# EAGLE library part ACS7* (library C3-Allegro)
Alegro Current Sense IC
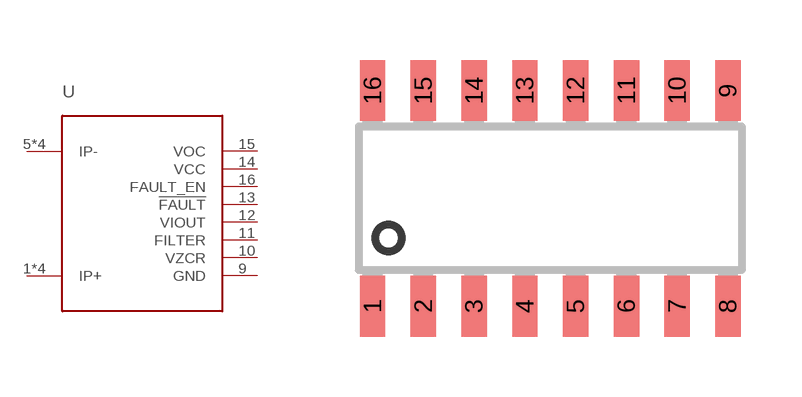
[diagram p0: symbol with the pads of SOIC16; footprint SOIC16]

Designator prefix U

## ACS710 (VCC: 5V), ACS716 (VCC: 3.3V)  [SOIC16]
1  IP+
2  IP+
3  IP+
4  IP+
5  IP-
6  IP-
7  IP-
8  IP-
9  GND  pwr
10  VZCR
11  FILTER
12  VIOUT
13  !FAULT
14  VCC  pwr
15  VOC
16  FAULT_EN

## Footprint SOIC16 (pad centres in mm)
SMALL OUTLINE INTEGRATED CIRCUIT 16-Pin (150-Mil) SOIC Source: http://www.cypress.com .. 38-12025_0P_V.pdf
smd 0.635 x 1.524: 1 -4.445,-2.695; 2 -3.175,-2.695; 3 -1.905,-2.695; 4 -0.635,-2.695; 5 0.635,-2.695; 6 1.905,-2.695; 7 3.175,-2.695; 8 4.445,-2.695; 9 4.445,2.695; 10 3.175,2.695; 11 1.905,2.695; 12 0.635,2.695; 13 -0.635,2.695; 14 -1.905,2.695; 15 -3.175,2.695; 16 -4.445,2.695